# EAGLE library part ATARI-800 (library atari-800)
Atari 800 cartridge board
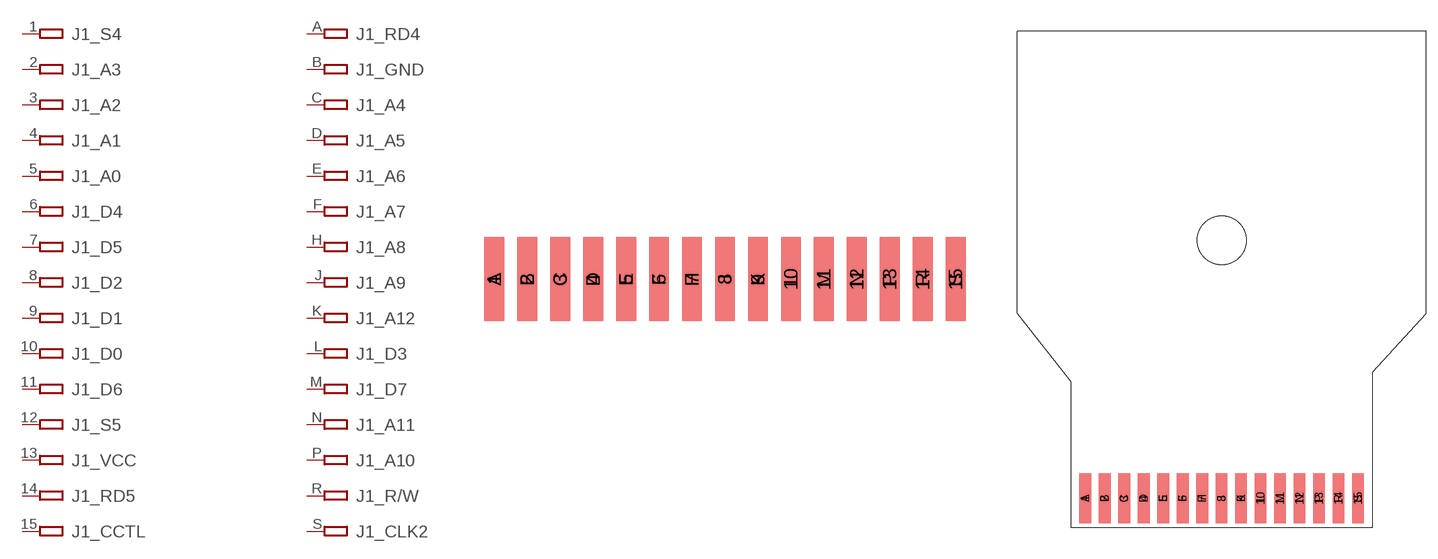
[diagram p0: symbol with the pads of ATARI-800; footprints ATARI-800, ATARI-800-MEDIUM]

Designator prefix J1; gates _S5=PIN _D6=PIN _D0=PIN _D1=PIN _D2=PIN _D5=PIN _D4=PIN _A0=PIN _A1=PIN _A2=PIN _A3=PIN _S4=PIN _A11=PIN _D7=PIN _D3=PIN _A12=PIN _A9=PIN _A8=PIN _A7=PIN _A6=PIN _A5=PIN _A4=PIN _RD4=PIN _RD5=PIN _CCTL=PIN _A10=PIN _R/W=PIN _CLK2=PIN _VCC=PIN _GND=PIN

## ATARI-800  [ATARI-800]
1  _S4:P  pas
2  _A3:P  pas
3  _A2:P  pas
4  _A1:P  pas
5  _A0:P  pas
6  _D4:P  pas
7  _D5:P  pas
8  _D2:P  pas
9  _D1:P  pas
10  _D0:P  pas
11  _D6:P  pas
12  _S5:P  pas
13  _VCC:P  pas
14  _RD5:P  pas
15  _CCTL:P  pas
A  _RD4:P  pas
B  _GND:P  pas
C  _A4:P  pas
D  _A5:P  pas
E  _A6:P  pas
F  _A7:P  pas
H  _A8:P  pas
J  _A9:P  pas
K  _A12:P  pas
L  _D3:P  pas
M  _D7:P  pas
N  _A11:P  pas
P  _A10:P  pas
R  _R/W:P  pas
S  _CLK2:P  pas

## ATARI-800-MEDIUM  [ATARI-800-MEDIUM]
Pads as for ATARI-800

## Footprint ATARI-800 (pad centres in mm)
Atari 800 cartridge edge connector, no dimension lines
smd 1.524 x 6.477: 1 -17.78,3.81; 2 -15.24,3.81; 3 -12.7,3.81; 4 -10.16,3.81; 5 -7.62,3.81; 6 -5.08,3.81; 7 -2.54,3.81; 8 0,3.81; 9 2.54,3.81; 10 5.08,3.81; 11 7.62,3.81; 12 10.16,3.81; 13 12.7,3.81; 14 15.24,3.81; 15 17.78,3.81
smd 1.524 x 6.477 bottom: A -17.78,3.81; B -15.24,3.81; C -12.7,3.81; D -10.16,3.81; E -7.62,3.81; F -5.08,3.81; H -2.54,3.81; J 0,3.81; K 2.54,3.81; L 5.08,3.81; M 7.62,3.81; N 10.16,3.81; P 12.7,3.81; R 15.24,3.81; S 17.78,3.81

## Footprint ATARI-800-MEDIUM (pad centres in mm)
Atari 800 medium cartridge board, 2.1" x 2.55"
smd 1.524 x 6.477: 1 -17.78,3.81; 2 -15.24,3.81; 3 -12.7,3.81; 4 -10.16,3.81; 5 -7.62,3.81; 6 -5.08,3.81; 7 -2.54,3.81; 8 0,3.81; 9 2.54,3.81; 10 5.08,3.81; 11 7.62,3.81; 12 10.16,3.81; 13 12.7,3.81; 14 15.24,3.81; 15 17.78,3.81
smd 1.524 x 6.477 bottom: A -17.78,3.81; B -15.24,3.81; C -12.7,3.81; D -10.16,3.81; E -7.62,3.81; F -5.08,3.81; H -2.54,3.81; J 0,3.81; K 2.54,3.81; L 5.08,3.81; M 7.62,3.81; N 10.16,3.81; P 12.7,3.81; R 15.24,3.81; S 17.78,3.81